# Altium schematic symbol library D_SHKY_PAIR_SERIES.SchLib: 1 symbol
Pins are listed as number, name and electrical type; pins without a type are passive.

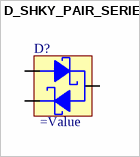
[diagram p0: symbol D_SHKY_PAIR_SERIES]

## D_SHKY_PAIR_SERIES
designator D?
Diode, Schottky
pins: A1, C1A2, C2